# Altium footprint library Components - 20.04.20 - 16.42.PcbLib: 1 footprints
Each footprint in its own frame and in the unit in brackets; x right, y up, seen from the top. Pads: shape width x height; smd on the part's side, far side on the other; paste and mask are expansions set on the pad; w line width, h text height; cw(c..) or ccw(c..) is an arc to the next point about the centre after c.
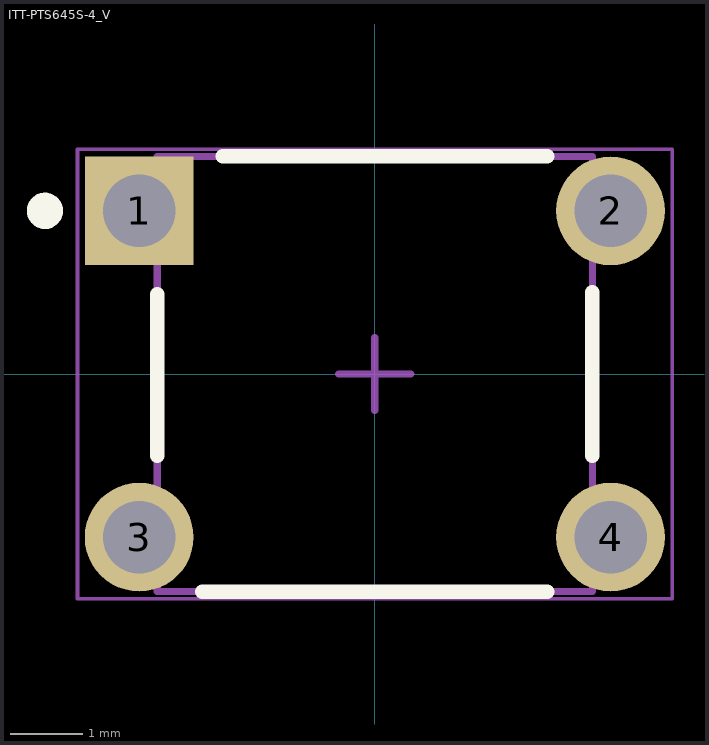
[diagram p0: the footprint, top view; thin cyan lines are the x and y axes]

## ITT-PTS645S-4_V [mm] "TH, 4-Leads, Body 6x6mm"
height 4.4
pads (4):
  rect 1.5x1.5 hole 1: 1(-3.25,2.25)
  round 1.5 hole 1: 2(3.25,2.25) 3(-3.25,-2.25) 4(3.25,-2.25)
Top Overlay:
  circle w0.25: c-4.55,2.25 r0.125
  lines w0.2: -3,-1.128 -3,1.1 ; -2.378,-3 2.378,-3 ; -2.1,3 2.378,3 ; 3,-1.128 3,1.128
Mechanical 13:
  lines w0.1: -3,-3 -3,3 3,3 3,-3 -3,-3
Mechanical 15:
  lines w0.05: -4.1,-3.1 -4.1,3.1 4.1,3.1 4.1,-3.1 -4.1,-3.1
  lines w0.1: -0.5,0 0.5,0 ; 0,-0.5 0,0.5
3D body: height 4.4, standoff 0, extent -2.999,-2.999 2.999,2.999